# Altium footprint library connectors.PcbLib: 44 footprints (part 3 of 3)
Each footprint in its own frame and in the unit in brackets; x right, y up, seen from the top. Pads: shape width x height; smd on the part's side, far side on the other; paste and mask are expansions set on the pad; w line width, h text height; cw(c..) or ccw(c..) is an arc to the next point about the centre after c.
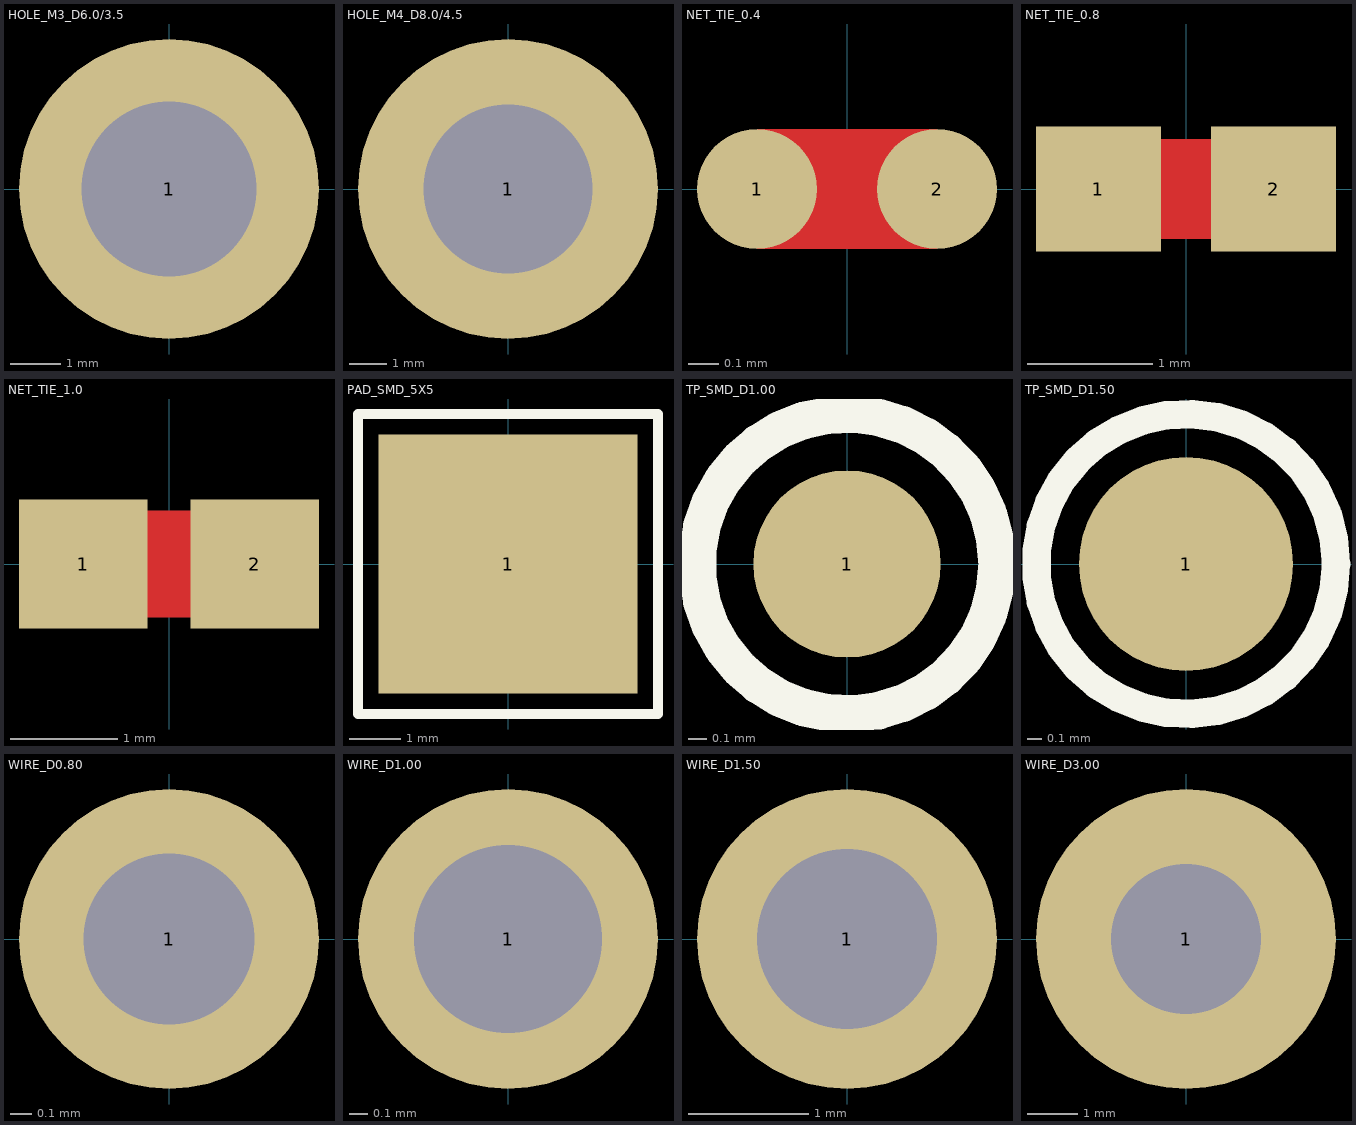
[diagram p2: the footprints below, top view; thin cyan lines are the x and y axes]

## HOLE_M3_D6.0/3.5 [mm]
pads (1):
  round 6 hole 3.5: 1(0,0)

## HOLE_M4_D8.0/4.5 [mm]
pads (1):
  round 8 hole 4.5: 1(0,0)

## NET_TIE_0.4 [mm] "Net tie, 0.4mm width"
pads (2):
  round 0.4 smd mask-1: 1(-0.3,0) 2(0.3,0)
Top Layer:
  rectangle: -0.3,-0.2 0.3,0.2
3D body: height 0.1, standoff -0.2, extent -0.3,-0.2 0.3,0.2

## NET_TIE_0.8 [mm] "Net tie, 0.8mm width"
pads (2):
  rect 1x1 smd mask-1: 1(-0.7,0) 2(0.7,0)
Top Layer:
  rectangle: -0.3,-0.4 0.3,0.4
3D body: height 0.1, standoff -0.2, extent -0.2,-0.4 0.2,0.4

## NET_TIE_1.0 [mm] "Net tie, 0.8mm width"
pads (2):
  rect 1.2x1.2 smd mask-1: 1(-0.8,0) 2(0.8,0)
Top Layer:
  rectangle: -0.3,-0.5 0.3,0.5
3D body: height 0.1, standoff -0.2, extent -0.2,-0.4 0.2,0.4

## PAD_SMD_5X5 [mm]
pads (1):
  rect 5x5 smd: 1(0,0)
Top Overlay:
  lines w0.2: -2.9,-2.9 -2.9,2.9 2.9,2.9 2.9,-2.9 -2.9,-2.9

## TP_SMD_D1.00 [mm] "SMD test point, 1.0 mm diameter"
pads (1):
  round 1 smd paste-10: 1(0,0)
Top Overlay:
  circle w0.2: c0,0 r0.8
3D body: height 0.1, standoff 0, extent -0.499,-0.5 0.5,0.5

## TP_SMD_D1.50 [mm] "SMD test point, 1.50 mm diameter"
pads (1):
  round 1.5 smd paste-10: 1(0,0)
Top Overlay:
  circle w0.2: c0,0 r1.05
3D body: height 0.1, standoff 0, extent -0.749,-0.75 0.75,0.75

## WIRE_D0.80 [mm] "Hole diameter 0.80mm"
pads (1):
  round 1.4 hole 0.8: 1(0,0)

## WIRE_D1.00 [mm] "Hole diameter 1.00mm"
pads (1):
  round 1.6 hole 1: 1(0,0)

## WIRE_D1.50 [mm] "Hole diameter 1.50mm"
pads (1):
  round 2.5 hole 1.5: 1(0,0)

## WIRE_D3.00 [mm] "Hole diameter 3.00mm"
pads (1):
  round 6 hole 3: 1(0,0)